# EAGLE library part ADM3054 (library logic-supply)
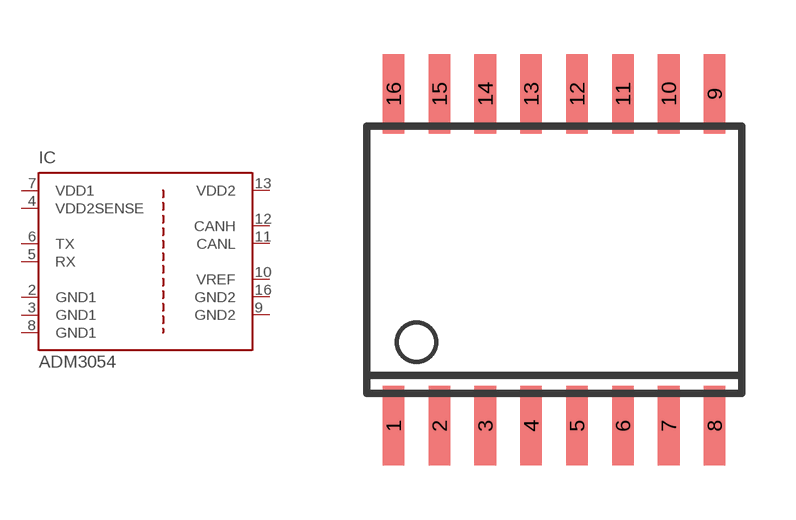
[diagram p0: symbol with the pads of SO16W; footprint SO16W]

Designator prefix IC

## ADM3054  [SO16W]
2  GND1  pwr
3  GND1  pwr
4  VDD2SENSE  out
5  RX  out
6  TX  in
7  VDD1  pwr
8  GND1  pwr
9  GND2
10  VREF  out
11  CANL
12  CANH
13  VDD2  pwr
16  GND2

## Footprint SO16W (pad centres in mm)
Derived from analog-devices.lbr SO-16W
smd 0.6 x 2.2: 1 -4.445,-4.6; 2 -3.175,-4.6; 3 -1.905,-4.6; 4 -0.635,-4.6; 5 0.635,-4.6; 6 1.905,-4.6; 7 3.175,-4.6; 8 4.445,-4.6; 9 4.445,4.6; 10 3.175,4.6; 11 1.905,4.6; 12 0.635,4.6; 13 -0.635,4.6; 14 -1.905,4.6; 15 -3.175,4.6; 16 -4.445,4.6